# EAGLE library part WE-LAN_10G_749052014 (library WE-LAN_10G)
WE-LAN 10G Transformer 10Gbit Base-T Characteristics 10G Base-T PoE(+) over 4 pairs up to 150 W Compliant with IEEE standards: 802.3af, 802.3at, 802.3an and 802.3bt Suitable for industrial temperatures: -40°C up to +105°C Applications Office and factory access points Gateways Servers High-speed routers and switches HDBaseT applications <https://www.we-online.com/components/media/o84657v209%20WE-LAN_749050010-749052012_4C%20-%20Kopie.jpg> Details see: www.we-online.com/en/components/products/WE-LAN-10G <www.we-online.com/catalog/WE-LAN-10G/?utm_source=eagle_model&utm_medium=description_link&utm_campaign=eisos_eagle> Updated by Ella Wu 2019-07-22 2019 (C) Würth Elektronik
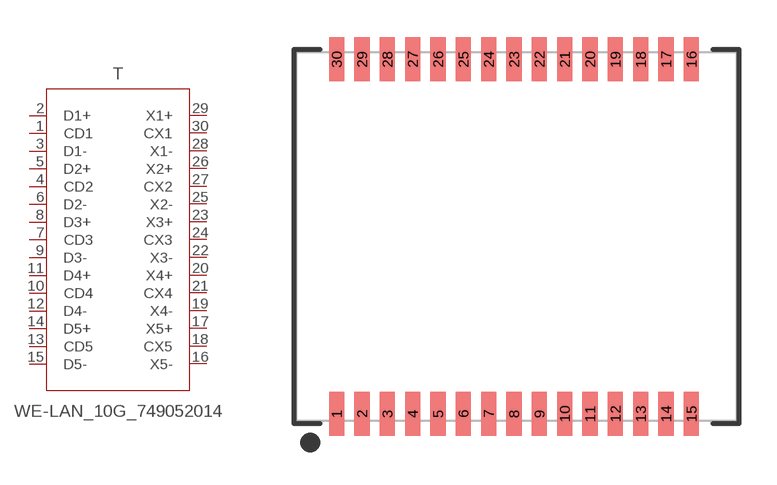
[diagram p7: symbol with the pads of WE-LAN_10G_749052014; footprint WE-LAN_10G_749052014]

Designator prefix T

## WE-LAN_10G_749052014 (DATA-RATE: 10G Base-T; DATASHEET-URL: https://www.we-online.com/redexpert/spec/749052014?ae; IMPROVED-CMRR: No; L: 180uH; MOUNT: SMT; OPERATING-TEMPERATURE: -40 °C up to +105 °C; PART-NUMBER: 749052014; POE: non-PoE; PORTS: 1; VALUE: 180uH; VT: 1500V(RMS))  [WE-LAN_10G_749052014]
1  CD1  pas
2  D1+  pas
3  D1-  pas
4  CD2  pas
5  D2+  pas
6  D2-  pas
7  CD3  pas
8  D3+  pas
9  D3-  pas
10  CD4  pas
11  D4+  pas
12  D4-  pas
13  CD5  pas
14  D5+  pas
15  D5-  pas
16  X5-  pas
17  X5+  pas
18  CX5  pas
19  X4-  pas
20  X4+  pas
21  CX4  pas
22  X3-  pas
23  X3+  pas
24  CX3  pas
25  X2-  pas
26  X2+  pas
27  CX2  pas
28  X1-  pas
29  X1+  pas
30  CX1  pas

## Footprint WE-LAN_10G_749052014 (pad centres in mm)
WE-LAN 10G Transformer 10Gbit Base-T
smd 0.61 x 1.78: 1 -7.24,-7.14; 2 -6.22,-7.14; 3 -5.2,-7.14; 4 -4.18,-7.14; 5 -3.16,-7.14; 6 -2.14,-7.14; 7 -1.12,-7.14; 8 -0.1,-7.14; 9 0.92,-7.14; 10 1.94,-7.14; 11 2.96,-7.14; 12 3.98,-7.14; 13 5,-7.14; 14 6.02,-7.14; 15 7.04,-7.14; 16 7.04,7.14; 17 6.02,7.14; 18 5,7.14; 19 3.98,7.14; 20 2.96,7.14; 21 1.94,7.14; 22 0.92,7.14; 23 -0.1,7.14; 24 -1.12,7.14; 25 -2.14,7.14; 26 -3.16,7.14; 27 -4.18,7.14; 28 -5.2,7.14; 29 -6.22,7.14; 30 -7.24,7.14